# Altium schematic symbol library SY89296U.SchLib: 1 symbol
Pins are listed as number, name and electrical type; pins without a type are passive.

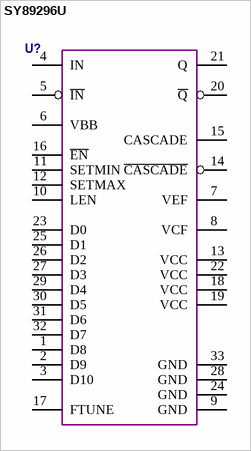
[diagram p0: symbol SY89296U]

## SY89296U
designator U?  (value not drawn)
pins: 1 D8, 2 D9, 3 D10, 4 IN, 5 ~{IN}, 6 VBB, 7 VEF, 8 VCF, 9 GND, 10 LEN, 11 SETMIN, 12 SETMAX, 13 VCC, 14 ~{CASCADE}, 15 CASCADE, 16 ~{EN}, 17 FTUNE, 18 VCC, 19 VCC, 20 ~{Q}, 21 Q, 22 VCC, 23 D0, 24 GND, 25 D1, 26 D2, 27 D3, 28 GND, 29 D4, 30 D5, 31 D6, 32 D7, 33 GND